# EAGLE library part ADG725 (library parts)
16-/32-Channel, Serially Controlled 4 Ω, 1.8 V to 5.5 V, ±2.5 V, Analog Multiplexers
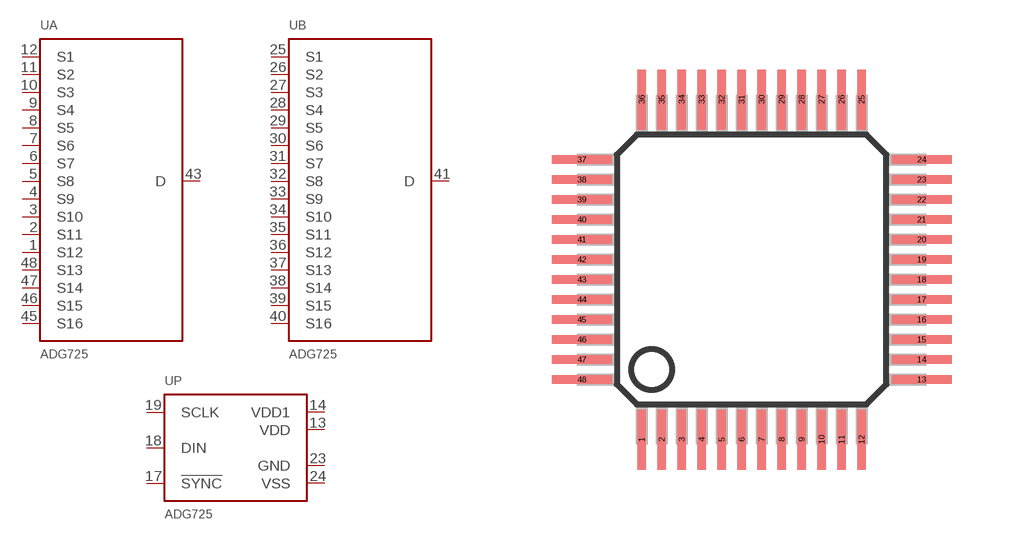
[diagram p14: symbol with the pads of TQFP48; footprint TQFP48]

Designator prefix U; gates A=ADG725-MUX B=ADG725-MUX P=ADG725-PWR

## ADG725BSU (RS: 538-6747)  [TQFP48]
1  A:S12
2  A:S11
3  A:S10
4  A:S9
5  A:S8
6  A:S7
7  A:S6
8  A:S5
9  A:S4
10  A:S3
11  A:S2
12  A:S1
13  P:VDD  pwr
14  P:VDD1  pwr
17  P:!SYNC  in
18  P:DIN  in
19  P:SCLK  in
23  P:GND  pwr
24  P:VSS  pwr
25  B:S1
26  B:S2
27  B:S3
28  B:S4
29  B:S5
30  B:S6
31  B:S7
32  B:S8
33  B:S9
34  B:S10
35  B:S11
36  B:S12
37  B:S13
38  B:S14
39  B:S15
40  B:S16
41  B:D
43  A:D
45  A:S16
46  A:S15
47  A:S14
48  A:S13

## Footprint TQFP48 (pad centres in mm)
Thin Quad Flat Pack
smd 0.22 x 1.5: 1 -2.75,-4.25; 2 -2.25,-4.25; 3 -1.75,-4.25; 4 -1.25,-4.25; 5 -0.75,-4.25; 6 -0.25,-4.25; 7 0.25,-4.25; 8 0.75,-4.25; 9 1.25,-4.25; 10 1.75,-4.25; 11 2.25,-4.25; 12 2.75,-4.25; 25 2.75,4.25; 26 2.25,4.25; 27 1.75,4.25; 28 1.25,4.25; 29 0.75,4.25; 30 0.25,4.25; 31 -0.25,4.25; 32 -0.75,4.25; 33 -1.25,4.25; 34 -1.75,4.25; 35 -2.25,4.25; 36 -2.75,4.25
smd 1.5 x 0.22: 13 4.25,-2.75; 14 4.25,-2.25; 15 4.25,-1.75; 16 4.25,-1.25; 17 4.25,-0.75; 18 4.25,-0.25; 19 4.25,0.25; 20 4.25,0.75; 21 4.25,1.25; 22 4.25,1.75; 23 4.25,2.25; 24 4.25,2.75; 37 -4.25,2.75; 38 -4.25,2.25; 39 -4.25,1.75; 40 -4.25,1.25; 41 -4.25,0.75; 42 -4.25,0.25; 43 -4.25,-0.25; 44 -4.25,-0.75; 45 -4.25,-1.25; 46 -4.25,-1.75; 47 -4.25,-2.25; 48 -4.25,-2.75